# EAGLE library part PCT2075 (library my_ic)
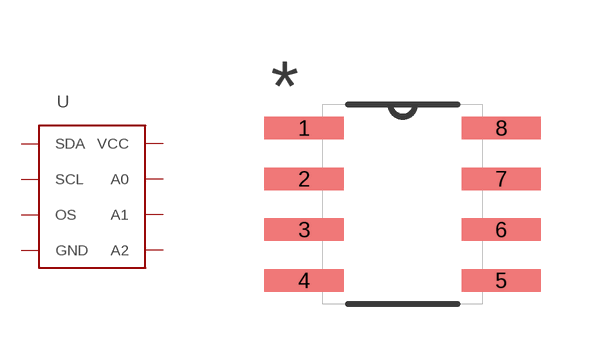
[diagram p10: symbol with the pads of SOIC-8; footprint SOIC-8]

Designator prefix -

## PCT2075  [SOIC-8]
1  SDA
2  SCL
3  OS
4  GND  pwr
5  A2
6  A1
7  A0
8  VCC  pwr

## Footprint SOIC-8 (pad centres in mm)
smd 1.981 x 0.559: 1 -2.464,1.905; 2 -2.464,0.635; 3 -2.464,-0.635; 4 -2.464,-1.905; 5 2.464,-1.905; 6 2.464,-0.635; 7 2.464,0.635; 8 2.464,1.905